# EAGLE library part AD826 (library OldModernDeviceBackup)
High-Speed, Low-Power Dual Operational Amplifier Source: http://www.analog.com/static/imported-files/data_sheets/AD826.pdf
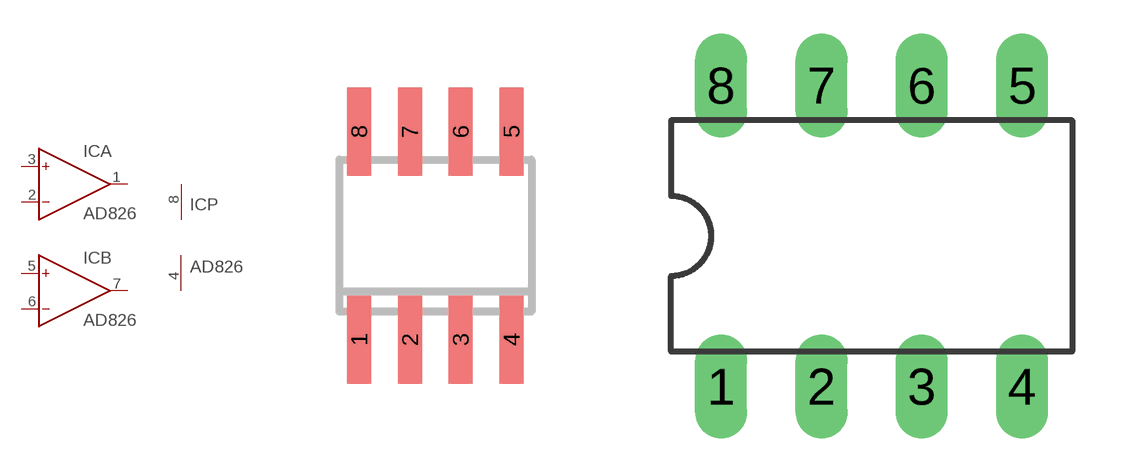
[diagram p62: symbol with the pads of SO8; footprints SO8, DIL08]

Designator prefix IC; gates A=OP B=OP P=PWR+--1

## AD826R (MF: ALTERA CORPORATION; MPN: AD826AR; OC_FARNELL: 1651291; OC_NEWARK: 05F7688)  [SO8]
1  A:OUT  out
2  A:IN-  in
3  A:IN+  in
4  P:V-  pwr
5  B:IN+  in
6  B:IN-  in
7  B:OUT  out
8  P:V+  pwr

## AD826N (MF: ALTERA CORPORATION; MPN: AD826ANZ; OC_FARNELL: 1438583; OC_NEWARK: 59K6530)  [DIL08]
Pads as for SO8

## Footprint SO8 (pad centres in mm)
8-Lead Small Outline IC (SO-8) Source: http://www.analog.com/UploadedFiles/Data_Sheets/703465986AD8611_2_0.pdf
smd 0.6 x 2.2: 1 -1.905,-2.6; 2 -0.635,-2.6; 3 0.635,-2.6; 4 1.905,-2.6; 5 1.905,2.6; 6 0.635,2.6; 7 -0.635,2.6; 8 -1.905,2.6

## Footprint DIL08 (pad centres in mm)
Dual In Line Package
drill 0.813 long: 1 -3.81,-3.81; 2 -1.27,-3.81; 3 1.27,-3.81; 4 3.81,-3.81; 5 3.81,3.81; 6 1.27,3.81; 7 -1.27,3.81; 8 -3.81,3.81